# Altium schematic symbol library BTS7751G.SchLib: 1 symbol
Pins are listed as number, name and electrical type; pins without a type are passive.

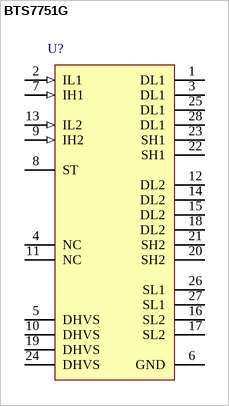
[diagram p0: symbol BTS7751G]

## BTS7751G
designator U?
TrilithIC, 4.8 to 42 V, -40 to 150 degC, P-DSO-28-14; Manufacturer: Infineon; PartNumber: BTS7751G; Green: FALSE; ID(lim): 15 A; ID(lim) (min): 8 A; Iq (typ): 5 uA; Protect: OT, SC; RDS(on) (typ): 115 mOhm; VS (max): 42 V; PackageVersion: May-02; PackageReference: P-DSO-28-14; PackageDescription: 28-Pin Plastic Dual Small Outline Package, 17.9 x 7.5 mm Body, 1.27 mm Pitch; Supplier 1: Digi-Key; Supplier Part Number 1: BTS7751G-ND; Supplier 2: Mouser; Supplier Part Number 2: 726-BTS7751G; Group: TrilithIC; Halogen-free: FALSE; Inhibit: FALSE; Operating Range: 4.8 to 42 V; Mounting Technology: Surface Mount; ComponentLink1Description: Manufacturer URL; ComponentLink1URL: http://www.infineon.com/; ComponentLink2Description: Datasheet; ComponentLink2URL: http://www.infineon.com/dgdl/BTS7751G_03-03-06.pdf?folderId=db3a304412b407950112b43980cf6e11&fileId=db3a304412b407950112b439815a6e12&location=en.Products.Automotive_ICs.Motor_Drivers__Automotive_.Integrated_High_Current_Motor_Drivers__NovalithIC____Trilith_IC_.DATASHEET.BTS7751G_03-03-06.pdf; ComponentLink3Description: Package Specification; ComponentLink3URL: http://www.infineon.com/dgdl/BTS7710G_01-02-01.pdf?folderId=db3a304319c6f18c011a33d4469709f3&fileId=db3a304319c6f18c011a33d4f32e09f4&sId=db3a30443d67b5ca013d81e8b1c72d7d
footprint INF-P-DSO-28-14_N (SOP, 28-Leads, Body 17.7x3.9mm, Pitch 1.27mm, IPC Medium Density)
footprint INF-P-DSO-28-14_L (SOP, 28-Leads, Body 17.7x3.9mm, Pitch 1.27mm, IPC High Density)
footprint INF-P-DSO-28-14_M (SOP, 28-Leads, Body 17.7x3.9mm, Pitch 1.27mm, IPC Low Density)
pins: 1 DL1 (power) "Drain of low-side switch1, leadframe 1", 2 IL1 (in) "Analog input of low-side switch1", 3 DL1 (power) "Drain of low-side switch1, leadframe 1", 4 NC "not connected", 5 DHVS (power) "Drain of high-side switches and power supply voltage, leadframe 2", 6 GND (power) "Ground", 7 IH1 (in) "Digital input of high-side switch1", 8 ST (oc) "Status of high-side switches; open Drain output", 9 IH2 (in) "Digital input of high-side switch2", 10 DHVS (power) "Drain of high-side switches and power supply voltage, leadframe 2", 11 NC "not connected", 12 DL2 (power) "Drain of low-side switch2, leadframe 3", 13 IL2 (in) "Analog input of low-side switch2", 14 DL2 (power) "Drain of low-side switch2, leadframe 3", 15 DL2 (power) "Drain of low-side switch2, leadframe 3", 16 SL2 (power) "Source of low-side switch2", 17 SL2 (power) "Source of low-side switch2", 18 DL2 (power) "Drain of low-side switch2, leadframe 3", 19 DHVS (power) "Drain of high-side switches and power supply voltage, leadframe 2", 20 SH2 (power) "Source of high-side switch2", 21 SH2 (power) "Source of high-side switch2", 22 SH1 (power) "Source of high-side switch1", 23 SH1 (power) "Source of high-side switch1", 24 DHVS (power) "Drain of high-side switches and power supply voltage, leadframe 2", 25 DL1 (power) "Drain of low-side switch1, leadframe 1", 26 SL1 (power) "Source of low-side switch1", 27 SL1 (power) "Source of low-side switch1", 28 DL1 (power) "Drain of low-side switch1, leadframe 1"